# EAGLE library part SST25PF040C (library Microchip)
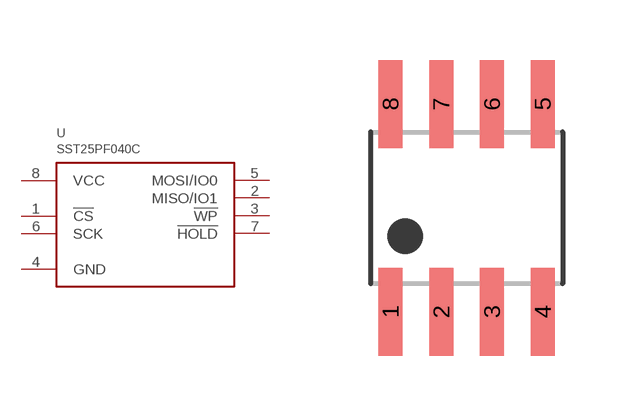
[diagram p10: symbol with the pads of SOIC8; footprint SOIC8]

Designator prefix U

## SST25PF040C  [SOIC8]
1  !CS!  in
2  MISO/IO1  out
3  !WP!  in
4  GND  pwr
5  MOSI/IO0  in
6  SCK  in
7  !HOLD!  in
8  VCC  pwr

## Footprint SOIC8 (pad centres in mm)
smd 0.6 x 2.2: 1 -1.905,-2.6; 2 -0.635,-2.6; 3 0.635,-2.6; 4 1.905,-2.6; 5 1.905,2.6; 6 0.635,2.6; 7 -0.635,2.6; 8 -1.905,2.6